# EAGLE library part RV16A01F-20 (library pot)
POTENTIOMETER - Alpha 16mm Dual
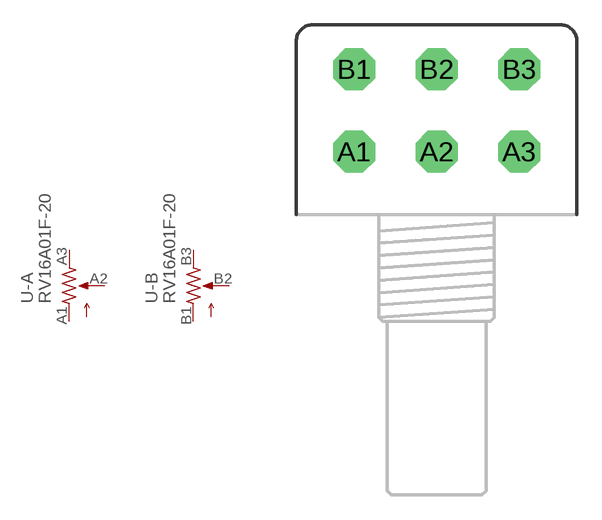
[diagram p10: symbol with the pads of RV16A01F-20; footprint RV16A01F-20]

Designator prefix -; gates -A=POT_US- -B=POT_US-

## RV16A01F-20  [RV16A01F-20]
A1  -A:1  pas
A2  -A:2  pas
A3  -A:3  pas
B1  -B:1  pas
B2  -B:2  pas
B3  -B:3  pas

## Footprint RV16A01F-20 (pad centres in mm)
POTENTIOMETER - Alpha 16mm Dual
drill 1.2 pad 2.54 octagon: A1 -5,3.8; A2 0,3.8; A3 5,3.8; B1 -5,8.8; B2 0,8.8; B3 5,8.8